# Altium integrated library 16SVPF82M.IntLib: 1 symbol
Pins are listed as number, name and electrical type; pins without a type are passive.

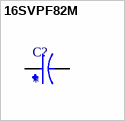
[diagram p0: symbol 16SVPF82M]

## 16SVPF82M
designator C?
Capacitor, Aluminum Organic Polymer, 16VDC,82uF,27mohm,5x6mm,T&R | Panasonic Electronic Components 16SVPF82M; SnapEDA_Link: https://www.snapeda.com/parts/16SVPF82M/Panasonic/view-part/?ref=snap; Package: RADIAL-2 Panasonic; Value: *; MF: Panasonic; MP: 16SVPF82M; Check_prices: https://www.snapeda.com/parts/16SVPF82M/Panasonic/view-part/?ref=eda
footprint CAP_16SVPF82M
pins: 1, 2